# EAGLE library part Q_ADUM3201 (library MRDT-2014-All)
IC, DIGITAL ISOLATOR 25Mbps
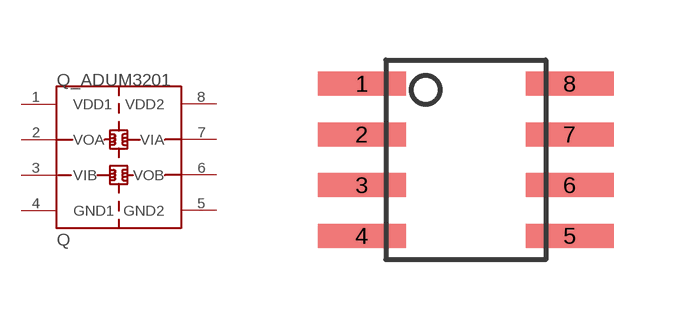
[diagram p25: symbol with the pads of SOIC8; footprint SOIC8]

Designator prefix Q

## Q_ADUM3201  [SOIC8]
1  VDD1
2  VOA
3  VIB
4  GND1
5  GND2
6  VOB
7  VIA
8  VDD2

## Footprint SOIC8 (pad centres in mm)
smd 2.2 x 0.6: 1 -2.6,1.905; 2 -2.6,0.635; 3 -2.6,-0.635; 4 -2.6,-1.905; 5 2.6,-1.905; 6 2.6,-0.635; 7 2.6,0.635; 8 2.6,1.905